# Altium footprint library LV BMS PcbLib.PcbLib: 16 footprints
Each footprint in its own frame and in the unit in brackets; x right, y up, seen from the top. Pads: shape width x height; smd on the part's side, far side on the other; paste and mask are expansions set on the pad; w line width, h text height; cw(c..) or ccw(c..) is an arc to the next point about the centre after c.
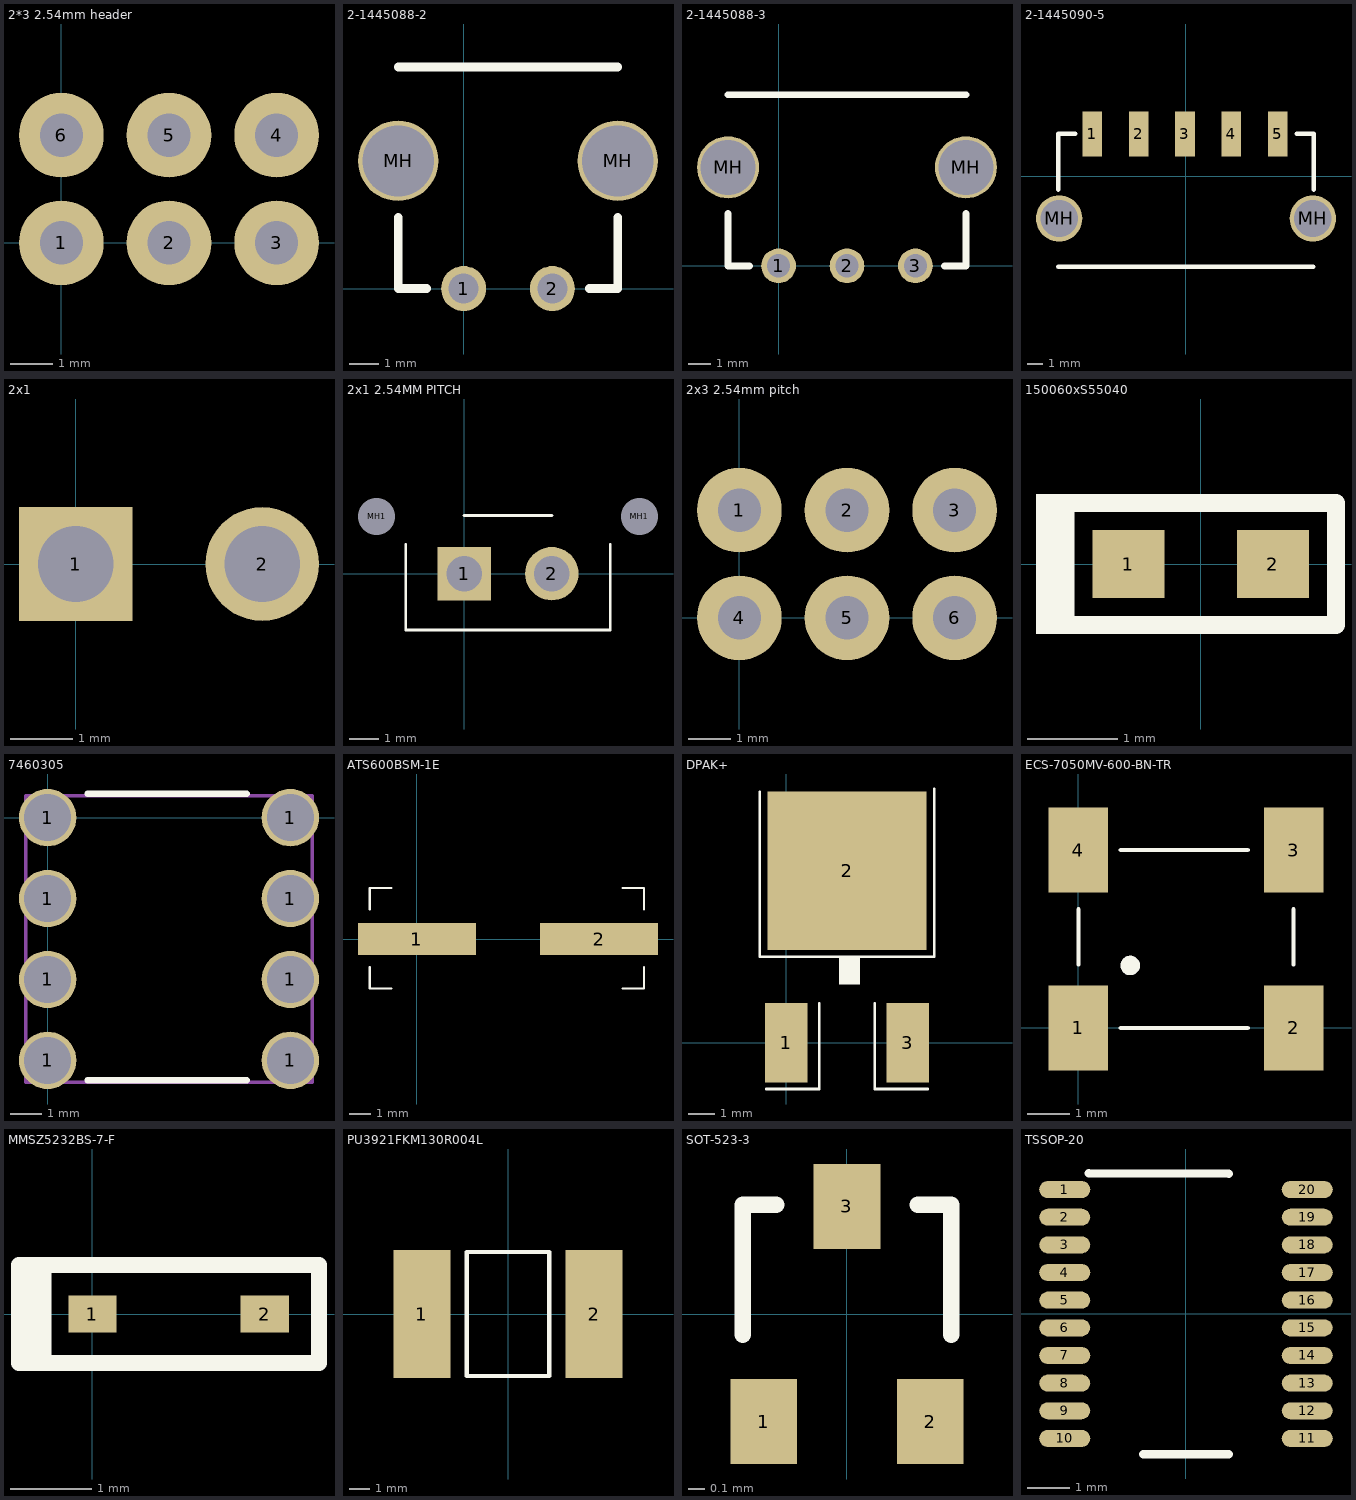
[diagram p0: the footprints below, top view; thin cyan lines are the x and y axes]

## 2*3 2.54mm header [mm]
pads (6):
  round 2 hole 1.02 mask+0: 1(0,0) 2(2.54,0) 3(5.08,0) 4(5.08,2.54) 5(2.54,2.54) 6(0,2.54)

## 2-1445088-2 [mm] "2pos micro mate-n-lok"
pads (4):
  round 1.524 hole 1.02: 1(0,0) 2(3,0)
  round 2.72 hole 2.41: MH(-2.215,4.32) MH(5.215,4.32)
Top Overlay:
  lines w0.3: -2.215,2.4 -2.215,0 -1.25,0 ; -2.215,7.5 5.215,7.5 ; 4.25,0 5.215,0 5.215,2.4
3D body "c-2-1445088-2-b-3d.stp": height 5.73, standoff -2.99, extent -3.595,-0.79 6.545,8.94

## 2-1445088-3 [mm] "3pos mico mate-n-lok"
pads (5):
  round 1.524 hole 1.02: 1(0,0) 2(3,0) 3(6,0)
  round 2.72 hole 2.41: MH(-2.215,4.32) MH(8.215,4.32)
Top Overlay:
  lines w0.3: -2.215,2.3 -2.215,0 -1.275,0 ; -2.215,7.5 8.215,7.5 ; 7.275,0 8.215,0 8.215,2.3
3D body "c-2-1445088-3-b-3d.stp": height 5.43, standoff -3.29, extent -3.57,-0.77 9.57,8.96

## 2-1445090-5 [mm] "5pos Micro Mate-n-lok"
pads (7):
  rect 1.27x2.92 smd mask+0: 1(-6.065,2.74) 2(-3.065,2.74) 3(-0.065,2.74) 4(2.935,2.74) 5(5.935,2.74)
  round 3 hole 2.41 unplated mask+0: MH(-8.215,-2.74) MH(8.215,-2.74)
Top Overlay:
  lines w0.3: -8.265,-5.86 8.235,-5.86 ; -8.265,-0.86 -8.265,2.74 -7.165,2.74 ; 7.165,2.74 8.265,2.74 8.265,-0.86
3D body "c-2-1445056-5-d-3d.stp": height 5.68, standoff -2.87, extent -9.535,-7.32 9.605,3.84

## 2x1 [mm]
pads (2):
  rect 1.83x1.83 hole 1.22: 1(0,0)
  round 1.83 hole 1.22: 2(3,0)

## 2x1 2.54MM PITCH [mm]
pads (4):
  rect 1.83x1.83 hole 1.22: 1(0,0)
  round 1.83 hole 1.22: 2(3,0)
  round 0.675 hole 1.27 unplated: MH1(-3,1.96) MH1(6,1.96)
Top Overlay:
  lines w0.1: 5,1 5,-1.93 ; -2,-1.93 -2,1 -2,-1.93 ; -2,-1.93 5,-1.93 ; -2,-1.93 5,-1.93 ; 0,2 3,2 0,2

## 2x3 2.54mm pitch [mm] "2x3 2.54mm pitch"
pads (6):
  round 2 hole 1.02 unplated: 1(0,2.54) 2(2.54,2.54) 3(5.08,2.54) 4(0,0) 5(2.54,0) 6(5.08,0)

## 150060xS55040 [mm] "Red LED"
pads (2):
  rect 0.8x0.75 smd mask+0: 1(-0.8,0) 2(0.8,0)
Top Overlay:
  rectangle: -1.825,-0.775 -1.475,0.775
  lines w0.2: -1.5,-0.675 -1.5,0.675 1.5,0.675 1.5,-0.675 -1.5,-0.675
3D body "Download_STP_WL-WL-SMCD-0603 (rev1) (1).stp": height 0.41, standoff 0.01, extent -0.825,-0.4 0.775,0.4

## 7460305 [mm] "M5 Stuf"
pads (8):
  round 1.8 hole 1.475: 1(0,-7.62) 1(0,-5.08) 1(0,-2.54) 1(0,0) 1(7.62,-7.62) 1(7.62,-5.08) 1(7.62,-2.54) 1(7.62,0)
Top Overlay:
  lines w0.2: 1.25,-8.25 6.25,-8.25 ; 1.25,0.75 6.25,0.75
Mechanical 13:
  lines w0.1: -0.69,-8.31 8.31,-8.31 8.31,0.69 -0.69,0.69 -0.69,-8.31
3D body "7460305.stp": height 7, standoff -3.5, extent -0.69,-8.31 8.31,0.69

## ATS600BSM-1E [mm] "Crystal"
pads (2):
  rect 5.5x1.5 smd mask+0: 1(0,0.017) 2(8.5,0.017)
Top Overlay:
  lines w0.1: -2.2,-1.3 -2.2,-2.3 -1.2,-2.3 ; -2.2,1.4 -2.2,2.4 -1.2,2.4 ; 9.6,-2.3 10.6,-2.3 10.6,-1.3 ; 9.6,2.4 10.6,2.4 10.6,1.4
3D body "User Library-HC49US.STEP": height 4.2, standoff 0, extent -2.15,-2.3 10.55,2.4

## DPAK+ [mm] "Power MOSFET (N-ch single 30V<VDSS=60V)"
pads (3):
  rect 1.6x3 smd mask+0: 1(0,0) 3(4.6,0)
  rect 6x6 smd mask+0: 2(2.3,6.5)
Top Overlay:
  rectangle: 2,2.2 2.8,3.3
  lines w0.1: -1,9.5 -1,3.25 5.6,3.25 5.6,9.6 ; -0.75,-1.75 1.25,-1.75 1.25,1.5 ; 3.35,1.5 3.35,-1.75 5.35,-1.75
3D body "User Library-DPAK-1.step": height 2.3, standoff -0.12, extent -1.04,-0.869 5.5,9.069

## ECS-7050MV-600-BN-TR [mm] "Crystal"
pads (4):
  rect 1.4x2 smd mask+0: 1(0,0) 2(5.08,0) 3(5.08,4.2) 4(0,4.2)
Top Overlay:
  circle w0.254: c1.225,1.475 r0.103
  lines w0.1: 0,1.5 0,2.8 ; 1,0 4,0 ; 1,4.2 4,4.2 ; 5.08,1.5 5.08,2.8

## MMSZ5232BS-7-F [mm] "Balance Diode"
pads (2):
  rect 0.59x0.45 smd: 1(0,0) 2(2.11,0)
Top Overlay:
  rectangle: -0.9,-0.6 -0.5,0.6
  lines w0.2: -0.9,-0.6 2.775,-0.6 2.775,0.6 -0.9,0.6 -0.9,-0.6
3D body "SOD-323 (diode).step": height 1.12, standoff 0.01, extent -0.25,-0.675 2.35,0.675

## PU3921FKM130R004L [mm] "4mOhm sense resistor"
pads (2):
  rect 2.75x6.2 smd mask+0: 1(-4.175,0) 2(4.175,0)
Top Overlay:
  lines w0.2: -2,-3 -2,3 2,3 2,-3 -2,-3
3D body "User Library-WSL3921L3000FEA.step": height 0.89, standoff 0.01, extent -4.8,-2.6 4.8,2.6

## SOT-523-3 [mm] "MOSFET"
pads (3):
  rect 0.4x0.51 smd mask+0: 1(-0.5,-0.645) 2(0.5,-0.645) 3(0,0.645)
Top Overlay:
  lines w0.1: -0.625,-0.125 -0.625,0.655 -0.425,0.655 ; 0.425,0.655 0.625,0.655 0.625,-0.125
3D body "User Library-SOT-523.step": height 0.81, standoff -0.04, extent -0.8,-0.848 0.8,0.779

## TSSOP-20 [mm] "Battery Management Li-Ion, Li-Phosphate Battery Moniter"
pads (20):
  oval 1.2x0.4 smd paste+0 mask+0: 1(-2.85,2.925) 2(-2.85,2.275) 3(-2.85,1.625) 4(-2.85,0.975) 5(-2.85,0.325) 6(-2.85,-0.325) 7(-2.85,-0.975) 8(-2.85,-1.625) 9(-2.85,-2.275) 10(-2.85,-2.925) 11(2.85,-2.925) 12(2.85,-2.275) 13(2.85,-1.625) 14(2.85,-0.975) 15(2.85,-0.325) 16(2.85,0.325) 17(2.85,0.975) 18(2.85,1.625) 19(2.85,2.275) 20(2.85,2.925)
Top Overlay:
  lines w0.2: -2.286,3.302 1,3.3 ; -1,-3.3 1,-3.3
3D body "User Library-TSSOP20.step": height 1.1, standoff 0.01, extent -3.105,-3.377 3.175,3.123